# Altium schematic symbol library ZMCT103C.SchLib: 1 symbol
Pins are listed as number, name and electrical type; pins without a type are passive.

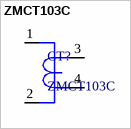
[diagram p0: symbol ZMCT103C]

## ZMCT103C
designator CT?
ZMCT103C Current Transformer 1000:1 5A/5mA
footprint ZMCT103C
pins: 1, 2, 3, 4